# EAGLE library part 8*C652-QFP44 (library micro-philips)
CMOS single-chip 8-bit Microcontroller
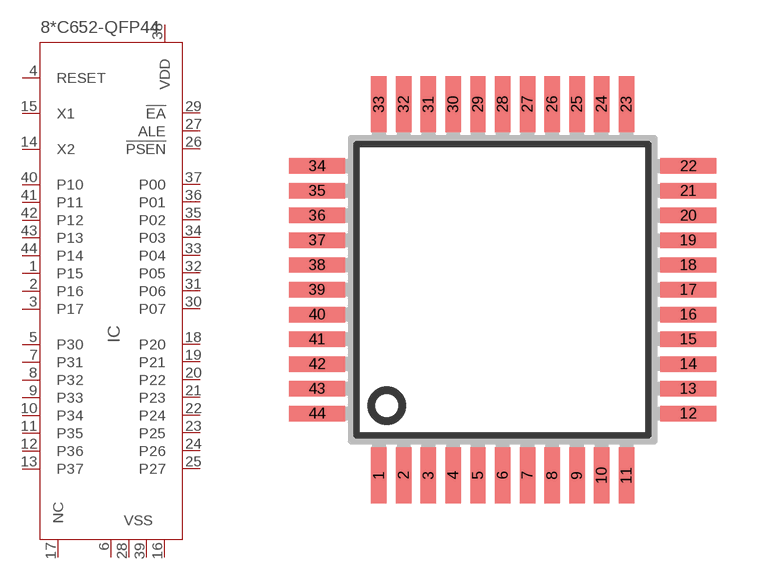
[diagram p14: symbol with the pads of QFP44_SOT307-2; footprint QFP44_SOT307-2]

Designator prefix IC

## 80C652-QFP44, 83C652-QFP44  [QFP44_SOT307-2]
1  P15
2  P16
3  P17
4  RESET
5  P30
6  VSS
7  P31
8  P32
9  P33
10  P34
11  P35
12  P36
13  P37
14  X2  out
15  X1  in
16  VSS  pwr
17  NC
18  P20
19  P21
20  P22
21  P23
22  P24
23  P25
24  P26
25  P27
26  !PSEN  out
27  ALE  out
28  VSS
29  !EA  in
30  P07
31  P06
32  P05
33  P04
34  P03
35  P02
36  P01
37  P00
38  VDD  pwr
39  VSS
40  P10
41  P11
42  P12
43  P13
44  P14

## Footprint QFP44_SOT307-2 (pad centres in mm)
Plastic Quad Flat Package SOT307-2 44 leads (lead length 1.3 mm); body 10 x 10 x 1.75 mm SOT307-2 source: http://www.semiconductors.philips.com/ LQFP-MSQFP-QFP-SQFP-TQFP-REFLOW.pdf
smd 0.5 x 1.8: 1 -4,-6; 2 -3.2,-6; 3 -2.4,-6; 4 -1.6,-6; 5 -0.8,-6; 6 0,-6; 7 0.8,-6; 8 1.6,-6; 9 2.4,-6; 10 3.2,-6; 11 4,-6; 23 4,6; 24 3.2,6; 25 2.4,6; 26 1.6,6; 27 0.8,6; 28 0,6; 29 -0.8,6; 30 -1.6,6; 31 -2.4,6; 32 -3.2,6; 33 -4,6
smd 1.8 x 0.5: 12 6,-4; 13 6,-3.2; 14 6,-2.4; 15 6,-1.6; 16 6,-0.8; 17 6,0; 18 6,0.8; 19 6,1.6; 20 6,2.4; 21 6,3.2; 22 6,4; 34 -6,4; 35 -6,3.2; 36 -6,2.4; 37 -6,1.6; 38 -6,0.8; 39 -6,0; 40 -6,-0.8; 41 -6,-1.6; 42 -6,-2.4; 43 -6,-3.2; 44 -6,-4